# Altium schematic symbol library LTEWlib.SchLib: 128 symbols (part 2 of 2)
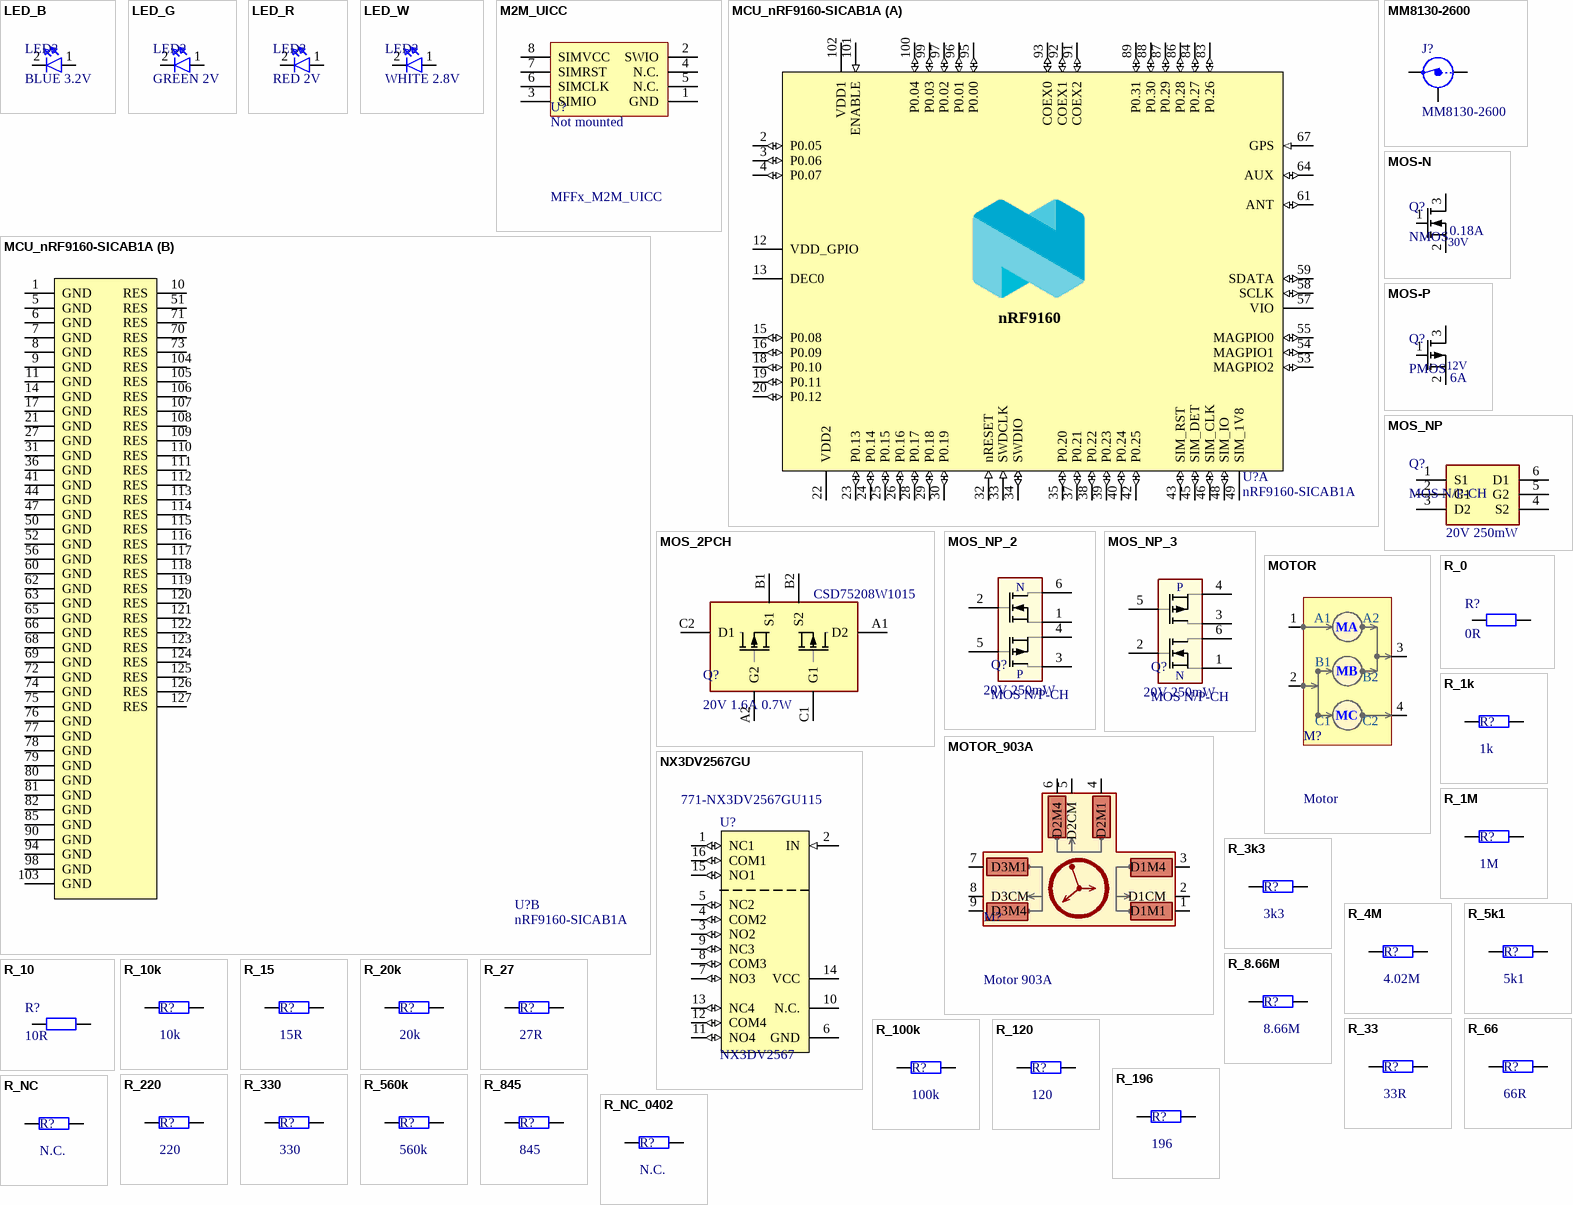
[diagram p4: symbols LED_B to R_NC_0402]

## R_100k
designator R?, comment 100k
RES SMD 100K OHM 1% 1/8W 0603; Manufacturer_Part_Number: RC0805FR-07100KL; Manufacturer_Name: YAGEO; Supplier 1: Digi-Key; Supplier Part Number 1: 311-100KCRCT-ND; Value: 100k; Unit Price: 0.10
footprint RES0603 (SMD 0603)
pins: 1, 2

## R_120
designator R?, comment 120
1 MOhms ±1% 0.1W, 1/10W Chip Resistor 0603 (1608 Metric) Automotive AEC-Q200 Thick Film; Manufacturer_Part_Number: CRGCQ0603F120R; Manufacturer_Name: YAGEO; Value: 120; Supplier 1: Digi-Key; Supplier Part Number 1: A129677CT-ND; Unit Price: 0.10
footprint RES0603 (SMD 0603)
pins: 1, 2

## R_196
designator R?, comment 196
196 Ohms ±1% 0.1W, 1/10W Chip Resistor 0603 (1608 Metric) Moisture Resistant Thick Film; Manufacturer_Part_Number: RC0603FR-07196RL; Manufacturer_Name: YAGEO; Value: 196; Supplier 1: Digi-Key; Supplier Part Number 1: 311-196HRDKR-ND; Unit Price: 0.10
footprint RES0603 (SMD 0603)
pins: 1, 2

## R_220
designator R?, comment 220
220 Ohms ±1% 0.1W, 1/10W Chip Resistor 0603 (1608 Metric) Moisture Resistant Thick Film; Manufacturer_Part_Number: CR0603-FX-3300ELF; Manufacturer_Name: YAGEO; Value: 220; Unit Price: 0.10; Supplier 1: Digi-Key; Supplier Part Number 1: 311-220HRTR-ND
footprint RES0603 (SMD 0603)
pins: 1, 2

## R_330
designator R?, comment 330
330 Ohms ±1% 0.1W, 1/10W Chip Resistor 0603 (1608 Metric) Automotive AEC-Q200 Thick Film; Manufacturer_Part_Number: CR0603-FX-3300ELF; Manufacturer_Name: YAGEO; Value: 330; Supplier 1: Digi-Key; Supplier Part Number 1: CR0603-FX-3300ELFCT-ND; Unit Price: 0.10
footprint RES0603 (SMD 0603)
pins: 1, 2

## R_560k
designator R?, comment 560k
560 kOhms ±1% 0.1W, 1/10W Chip Resistor 0603 (1608 Metric) Automotive AEC-Q200, Moisture Resistant Thick Film; Manufacturer_Part_Number: AC0603FR-07560KL; Manufacturer_Name: YAGEO; Value: 560k; Supplier 1: Digi-Key; Supplier Part Number 1: 311-560KLDCT-ND; Unit Price: 0.10
footprint RES0603 (SMD 0603)
pins: 1, 2

## R_845
designator R?, comment 845
845 Ohms ±1% 0.1W, 1/10W Chip Resistor 0603 (1608 Metric) Moisture Resistant Thick Film; Manufacturer_Part_Number: RC0603FR-07845RL; Manufacturer_Name: YAGEO; Value: 845; Supplier 1: Digi-Key; Supplier Part Number 1: 311-845HRCT-ND; Unit Price: 0.10
footprint RES0603 (SMD 0603)
pins: 1, 2

## R_NC
designator R?, comment N.C.
Value: N.C.
footprint RES0603 (SMD 0603)
pins: 1, 2

## R_NC_0402
designator R?, comment N.C.
Value: N.C.
footprint RESC1005X40N (Footprint not found)
pins: 1, 2

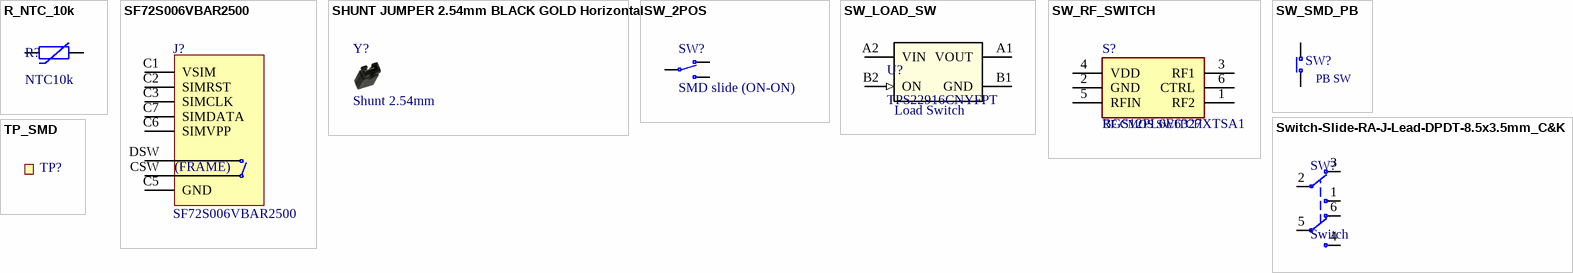
[diagram p3: symbols R_NTC_10k to TP_SMD]

## R_NTC_10k
designator R?, comment NTC10k
NTC Thermistor 10k 0603 (1608 Metric); Manufacturer_Part_Number: ERT-J1VR103J; Manufacturer_Name: Panasonic; Value: NTC10k; Supplier 1: Digi-Key; Supplier Part Number 1: P10547CT-ND; Unit Price: 0.18
footprint C0603 (SMD 0603)
pins: 1, 2

## SF72S006VBAR2500
designator J?
n 8 (6 + 2) Position Card Connector NANO SIM Surface Mount, Right Angle Gold; Manufacturer_Name: JAE Electronics; Manufacturer Part Number: SF72S006VBDR2500; ComponentLink1URL: N.A.; ComponentLink1Description: Datasheet; ComponentLink2URL: N.A.; ComponentLink2Description: Supplier link; Unit Price: *; Supplier 1: Digi-Key; Supplier Part Number 1: 670-2967-6-ND
footprint SF72S006VBAR2500
pins: 0 GND hidden to GND, C1 VSIM, C2 SIMRST, C3 SIMCLK, C5 GND, C6 SIMVPP, C7 SIMDATA, CSW, DSW
text: (FRAME)

## SHUNT JUMPER 2.54mm BLACK GOLD Horizontal
designator Y?, comment Shunt 2.54mm
Shunt Jumper 2.54mm Black; Manufacturer_Name: Sullins Connector Solutions; Manufacturer Part Number: SPC02SYAN; ComponentLink1URL: N.A.; ComponentLink1Description: Datasheet; ComponentLink2URL: N.A.; ComponentLink2Description: Supplier link; Footprint Doc: SHUNT JUMPER 2.54mm; Value: Shunt 2.54mm; Component Class: Connectors; Supplier 1: Digi-Key; Supplier Part Number 1: S9001-ND; Unit Price: 0.10
footprint Shunt_2.54mm_Horizontal

## SW_2POS
designator SW?, comment SMD slide (ON-ON)
SMD slide Switch (ON-ON); Manufacturer_Part_Number: CJS-1200TA; Manufacturer_Name: Nidec Copal Electronics; ComponentLink1URL: N.A.; ComponentLink1Description: Datasheet; ComponentLink2URL: N.A.; ComponentLink2Description: Supplier link; Supplier 1: Mouser; Supplier Part Number 1: 229-CJS-1200TA; Value: SMD slide (ON-ON); Unit Price: 0.73
footprint CJS-120xA
footprint CJS-120xA - LED
footprint CJS-120xA - M/L
pins: 1 N.C, 2 COM, 3 N.O

## SW_LOAD_SW
designator U?, comment TPS22916CNYFPT  value Load Switch
Power Switch/Driver 1:1 P-Channel 2A 4-DSBGA; Manufacturer_Name: Texas Instruments; Type: DEV; RefDes: RefDes; Copyright: Copyright (C) 2022 Ultra Librarian. All rights reserved.; Manufacturer_Part_Number: TPS22916CNYFPT; Supplier 1: Mouser; Supplier Part Number 1: 595-TPS22916CNYFPT; Unit Price: 1.22
footprint BGA4C40P2X2_78X78X50 (Footprint not found)
pins: A1 VOUT (power), A2 VIN (power), B1 GND (power), B2 ON (in)

## SW_RF_SWITCH
designator S?, comment BGS12PL6E6327XTSA1  value RF CMOS SWITCH
RF Switch IC WLAN SPDT 50Ohm PG-TSNP-6-10; Manufacturer_Name: Infineon Technologies; Supplier 1: Digi-Key; Manufacturer_Part_Number: BGS12PL6E6327XTSA1; Supplier Part Number 1: BGS12PL6E6327XTSA1CT-ND; Unit Price: 0.50
footprint BGS12WN6E6327XTSA1
pins: 1 RF2, 2 GND, 3 RF1, 4 VDD, 5 RFIN, 6 CTRL

## SW_SMD_PB
designator SW?, comment value PB SW  (hidden comment: SKHUALE010)
Tactile Switch, SPNO, SMD, 160gf, 6.2x6.3x2.5mm; Manufacturer_Name: Alps Alpine; Pad Count: 4; ComponentLink1URL: N.A.; ComponentLink1Description: Datasheet; ComponentLink2URL: N.A.; ComponentLink2Description: Supplier link; Supplier Part Number 2: 688-SKHUALE010; PartId: 101500001; Component Class: Switches; Manufacturer_Part_Number: SKHUALE010; Unit Price: 0.76; Supplier 1: Mouser; Supplier 2: Farnell; Supplier Part Number 2: 1333652; Supplier Part Number 1: 688-SKHUALE010
footprint Switch-PB-6.2x6.3mm-SMD
footprint Switch-PB-SMD-GPS-RST
footprint Switch-PB-SMD-MCU-RST
footprint Switch-PB-SMD-BT0
footprint Switch-PB-SMD-BT1
footprint Switch-PB-SMD-BT2
footprint Switch-PB-SMD-BT3
footprint Push Button C2.5X3.0 OMRON B3U-1000P(M)-B
footprint Push Button C2.5X3.0 OMRON B3U-1000P(M)-B - GPS RST (Push Button C2.5X3.0 OMRON B3U-1000P(M)-B)
footprint Push Button C2.5X3.0 OMRON B3U-1000P(M)-B - MCU RST (Push Button C2.5X3.0 OMRON B3U-1000P(M)-B)
pins: 1 N.O, 2 COM

## Switch-Slide-RA-J-Lead-DPDT-8.5x3.5mm_C&K
designator SW?, comment Switch
SMD slide Switch (ON-ON); Manufacturer_Name: C&K; Manufacturer Part Number: JS202011JAQN; Value: Switch; ComponentLink1URL: N.A.; ComponentLink1Description: Datasheet; ComponentLink2URL: N.A.; ComponentLink2Description: Supplier link; Component Class: Switches; Supplier 1: Digi-Key; Supplier Part Number 1: CKN10722CT-ND; Unit Price: 0.66
footprint JS102011JAQN
footprint JS102011JAQN - GPS
footprint JS102011JAQN - pwr
pins: 1 N.O-1, 2 COM-1, 3 N.C-1, 4 N.O-2, 5 COM-2, 6 N.C-2

## TP_SMD
designator TP?, comment Ø1.0mm,SMD  (value not drawn)  (no BOM)
0.8 mm circular SMD testpad; Part Number: TP_SMD_Ø1.0MM; Manufacturer: Nordic Semiconductor; Manufacturer Part Number: N.A.; Pad Count: 1; ComponentLink1URL: N.A.; ComponentLink1Description: Datasheet; ComponentLink2URL: N.A.; ComponentLink2Description: Supplier link; HelpURL: N.A.; Footprint Doc: TP_SMD_Ø1.0mm; LatestRevisionDate: 2013-06-11; Published: 2013-06-11; Value: Ø1.0mm,SMD; Note: N.A.; Artikkelnr Noca: N.A.; Part number IPS: N.A.; Supplier 1: N.A.; Supplier Part Number 1: N.A.; Supplier 2: N.A.; Supplier Part Number 2: N.A.; PartId: 100500475; Component Class: Connectors
footprint TP_SMD_Ø0.8mm
pins: 1